# EAGLE library part BC05B (library bt-modul)
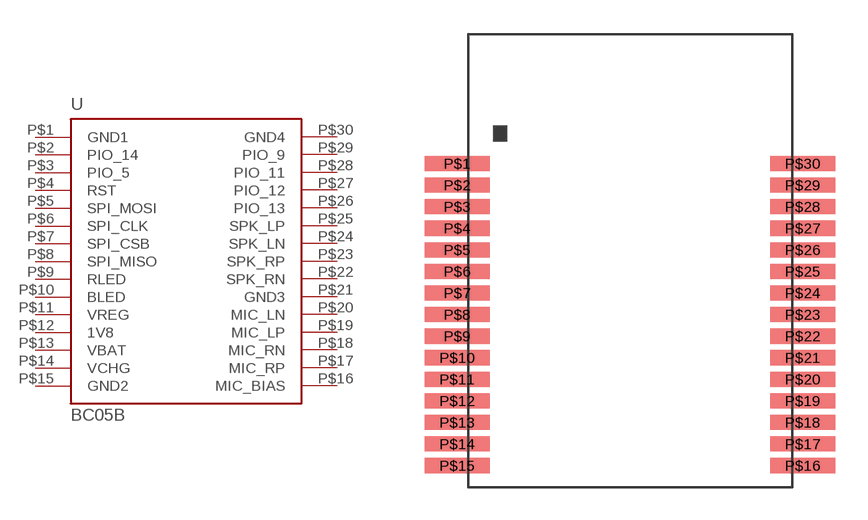
[diagram p0: symbol with the pads of BC05B-SMD; footprint BC05B-SMD]

Designator prefix -

## BC05B  [BC05B-SMD]
P$1  GND1
P$2  PIO_14
P$3  PIO_5
P$4  RST
P$5  SPI_MOSI  in
P$6  SPI_CLK
P$7  SPI_CSB  out
P$8  SPI_MISO
P$9  RLED  pwr
P$10  BLED  in
P$11  VREG  out
P$12  1V8  pwr
P$13  VBAT
P$14  VCHG  in
P$15  GND2
P$16  MIC_BIAS
P$17  MIC_RP
P$18  MIC_RN
P$19  MIC_LP
P$20  MIC_LN
P$21  GND3
P$22  SPK_RN  pas
P$23  SPK_RP  pas
P$24  SPK_LN
P$25  SPK_LP
P$26  PIO_13
P$27  PIO_12
P$28  PIO_11
P$29  PIO_9  pwr
P$30  GND4  pwr

## Footprint BC05B-SMD (pad centres in mm)
smd 3 x 0.7: P$1 -0.5,15; P$2 -0.5,14; P$3 -0.5,13; P$4 -0.5,12; P$5 -0.5,11; P$6 -0.5,10; P$7 -0.5,9; P$8 -0.5,8; P$9 -0.5,7; P$10 -0.5,6; P$11 -0.5,5; P$12 -0.5,4; P$13 -0.5,3; P$14 -0.5,2; P$15 -0.5,1; P$16 15.5,1; P$17 15.5,2; P$18 15.5,3; P$19 15.5,4; P$20 15.5,5; P$21 15.5,6; P$22 15.5,7; P$23 15.5,8; P$24 15.5,9; P$25 15.5,10; P$26 15.5,11; P$27 15.5,12; P$28 15.5,13; P$29 15.5,14; P$30 15.5,15